# Altium footprint library CUI_SJ2-25964A-SMT-TR.PcbLib: 1 footprints
Each footprint in its own frame and in the unit in brackets; x right, y up, seen from the top. Pads: shape width x height; smd on the part's side, far side on the other; paste and mask are expansions set on the pad; w line width, h text height; cw(c..) or ccw(c..) is an arc to the next point about the centre after c.
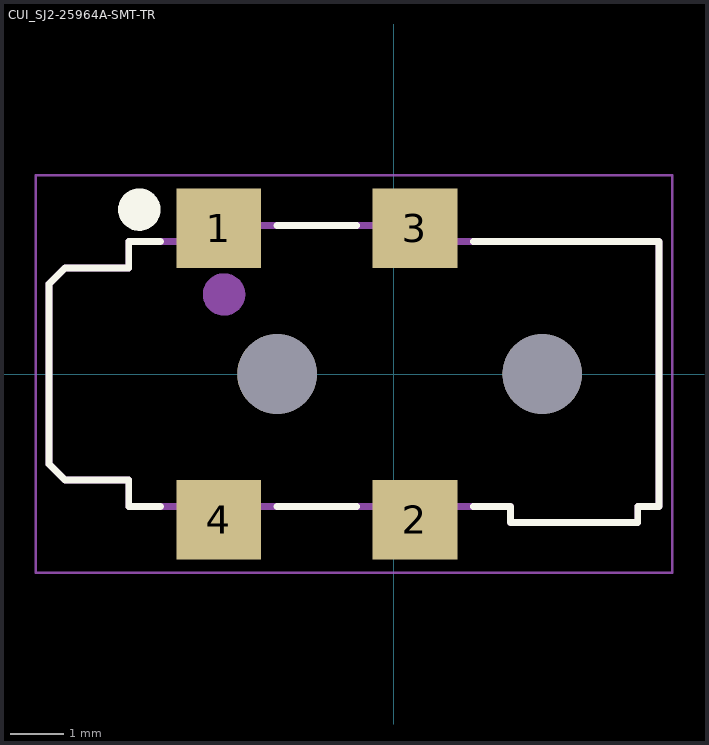
[diagram p0: the footprint, top view; thin cyan lines are the x and y axes]

## CUI_SJ2-25964A-SMT-TR [mm]
pads (6):
  rect 1.6x1.5 smd: 1(-3.3,2.75) 2(0.4,-2.75) 3(0.4,2.75) 4(-3.3,-2.75)
  round 1.5 hole 1.5 unplated: ""(-2.2,0) ""(2.8,0)
Top Overlay:
  circle w0.4: c-4.8,3.1 r0.2
  lines w0.01: -5,2.5 -5,2.54
  lines w0.127: -4.4,-2.5 -5,-2.5 -5,-2 -6.2,-2 -6.5,-1.7 -6.5,1.7 -6.2,2 -5,2 -5,2.5 -4.4,2.5 ; -2.2,-2.5 -0.7,-2.5 ; -2.2,2.8 -0.7,2.8 ; 1.5,-2.5 2.2,-2.5 2.2,-2.8 4.6,-2.8 4.6,-2.5 5,-2.5 5,2.5 1.5,2.5
Mechanical 13:
  circle w0.4: c-3.2,1.5 r0.2
  lines w0.01: -5,2.5 -5,2.54
  lines w0.127: -6.5,-1.7 -6.5,1.7 -6.2,2 -5,2 -5,2.5 -3.4,2.5 -3.4,2.8 0.4,2.8 0.4,2.5 5,2.5 5,-2.5 4.6,-2.5 4.6,-2.8 2.2,-2.8 2.2,-2.5 -5,-2.5 -5,-2 -6.2,-2 -6.5,-1.7
Mechanical 15:
  lines w0.05: -6.75,-3.75 5.25,-3.75 5.25,3.75 -6.75,3.75 -6.75,-3.75
3D body "CUI_DEVICES_SJ2-25964A-SMT-TR.step": height 3.4, standoff -0.6, extent -6.58,-2.96 4.92,3.04